# EAGLE library part OLIMEX_CONNECTORS_VIDEO_CINCH (library iMX233-OLinuXino-Micro_Rev_D)
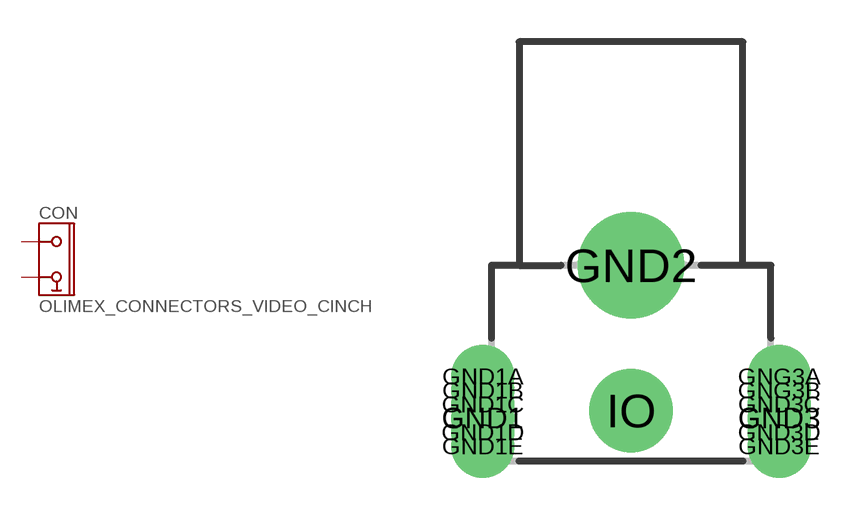
[diagram p2: symbol with the pads of OLIMEX_CONNECTORS_VIDEO_CINCH; footprint OLIMEX_CONNECTORS_VIDEO_CINCH]

Designator prefix CON

## OLIMEX_CONNECTORS_VIDEO_CINCH  [OLIMEX_CONNECTORS_VIDEO_CINCH]
GND1  GND  pwr
GND1A  GND  pwr
GND1B  GND  pwr
GND1C  GND  pwr
GND1D  GND  pwr
GND1E  GND  pwr
GND2  GND  pwr
GND3  GND  pwr
GND3C  GND  pwr
GND3D  GND  pwr
GND3E  GND  pwr
GNG3A  GND  pwr
GNG3B  GND  pwr
IO  IO

## Footprint OLIMEX_CONNECTORS_VIDEO_CINCH (pad centres in mm)
drill 1.5 pad 1.93: GND1 -5.3,-5.475; GND1A -5.3,-3.975; GND1B -5.3,-4.475; GND1C -5.3,-4.975; GND1D -5.3,-5.975; GND1E -5.3,-6.475; GND3 5.3,-5.475; GND3C 5.3,-4.975; GND3D 5.3,-5.975; GND3E 5.3,-6.475; GNG3A 5.3,-3.975; GNG3B 5.3,-4.475
drill 2.8: GND2 0,0
drill 2: IO 0,-5.2